# Altium schematic symbol library m1_Schlib1.SchLib: 7 symbols
Pins are listed as number, name and electrical type; pins without a type are passive.

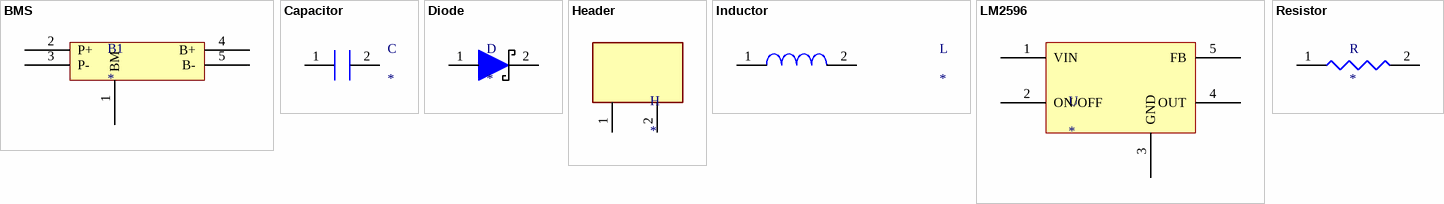
[diagram p0: symbols BMS to Resistor]

## BMS
designator B1
pins: 1 BM, 2 P+, 3 P-, 4 B+, 5 B-

## Capacitor
designator C
pins: 1, 2

## Diode
designator D
pins: 1, 2

## Header
designator H
pins: 1, 2

## Inductor
designator L
pins: 1, 2

## LM2596
designator U
pins: 1 VIN, 2 ON/OFF, 3 GND, 4 OUT, 5 FB

## Resistor
designator R
pins: 1, 2